# Altium schematic symbol library MRIND.SchLib: 1 symbol
Pins are listed as number, name and electrical type; pins without a type are passive.

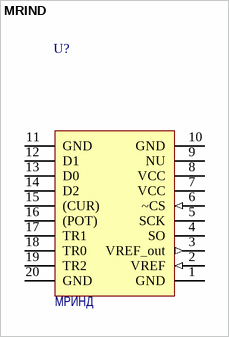
[diagram p0: symbol MRIND]

## MRIND
designator U?  Наименование: МРИНД  (hidden comment: MRIND)
Датчик интегральной дозы; Потребление, Вт: 1,0; Назначение: Датчик интегральной дозы
footprint MRIND (Footprint not found)
pins: 1 GND (power), 2 VREF (in), 3 VREF_out (out), 4 SO (oc), 5 SCK, 6 ~CS (in), 7 VCC (power), 8 VCC (power), 9 NU, 10 GND (power), 11 GND (power), 12 D1, 13 D0, 14 D2, 15 (CUR), 16 (POT), 17 TR1, 18 TR0, 19 TR2, 20 GND (power)